# Altium footprint library CONN_jk.PcbLib: 55 footprints (part 1 of 4)
Each footprint in its own frame and in the unit in brackets; x right, y up, seen from the top. Pads: shape width x height; smd on the part's side, far side on the other; paste and mask are expansions set on the pad; w line width, h text height; cw(c..) or ccw(c..) is an arc to the next point about the centre after c.
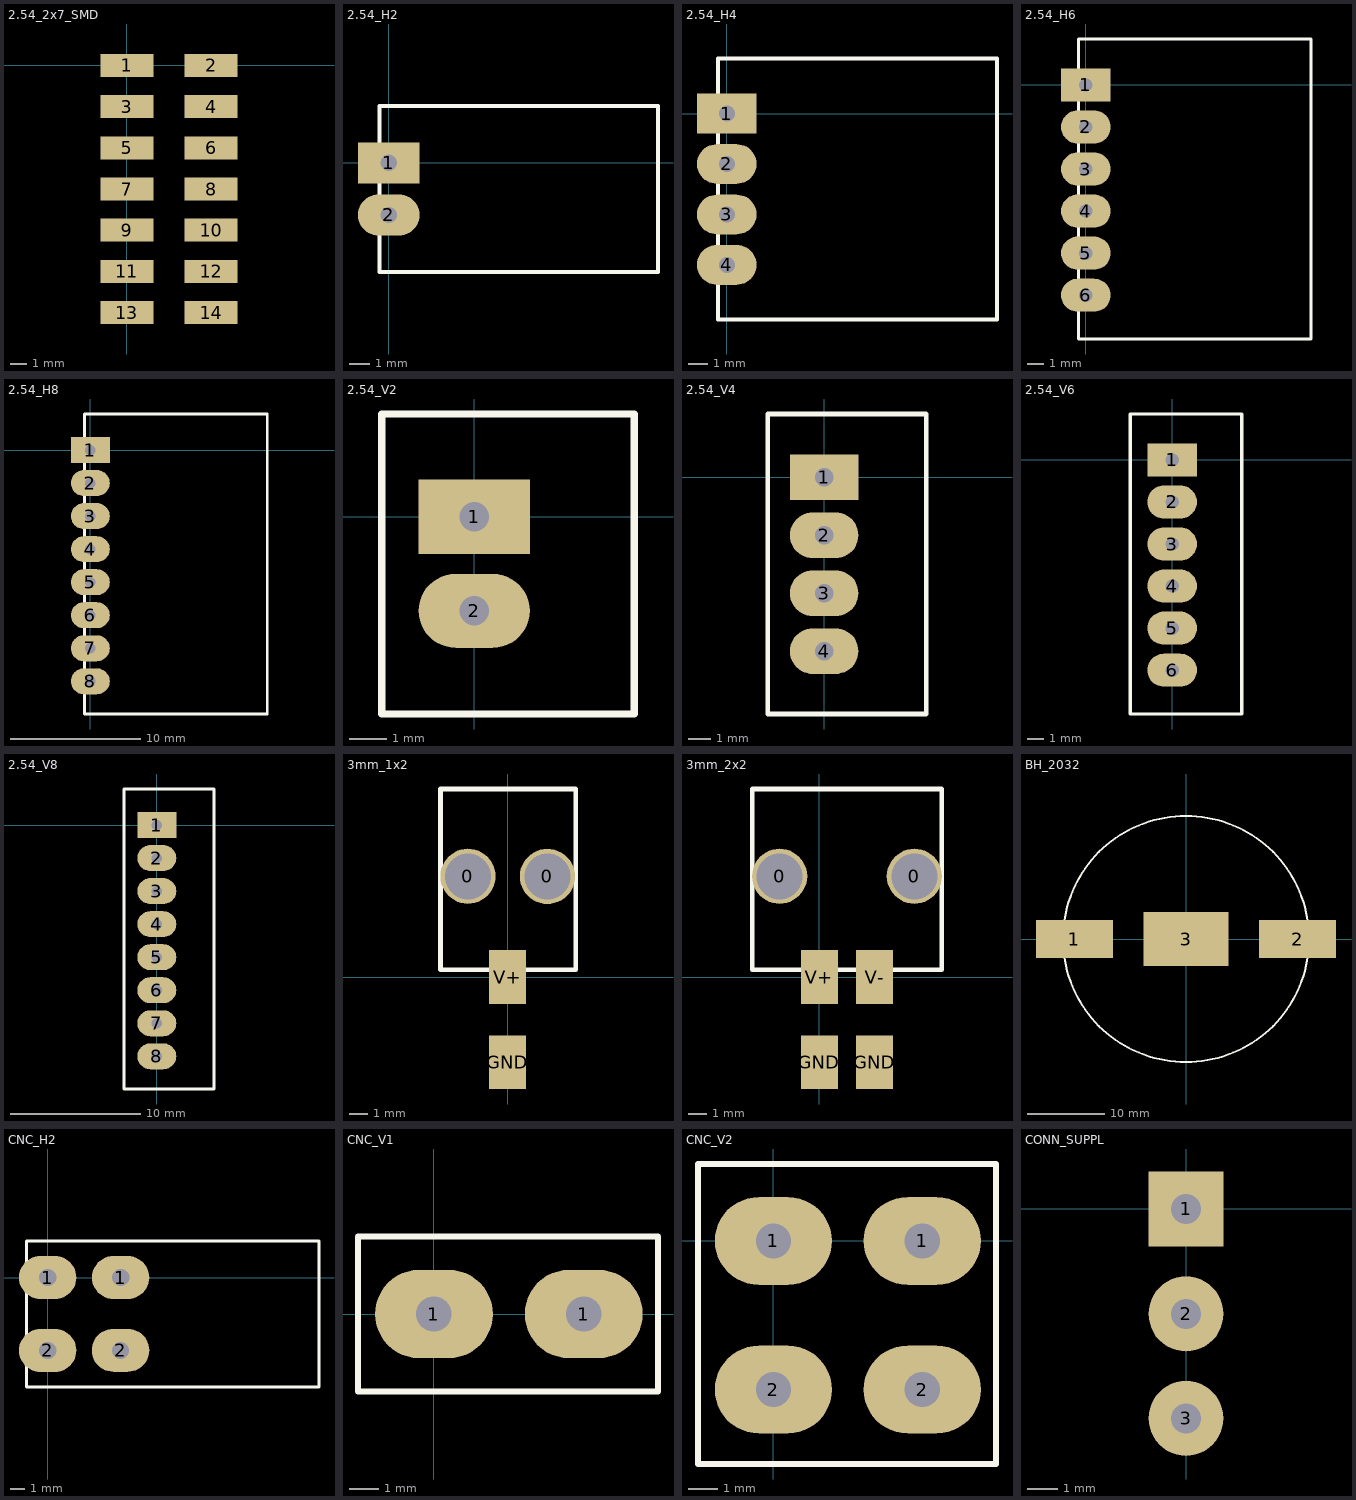
[diagram p0: the footprints below, top view; thin cyan lines are the x and y axes]

## 2.54_2x7_SMD [mm]
pads (14):
  rect 3.2x1.4 smd: 1(0,0) 2(5.1,0) 3(0,-2.5) 4(5.1,-2.5) 5(0,-5) 6(5.1,-5) 7(0,-7.5) 8(5.1,-7.5) 9(0,-10) 10(5.1,-10) 11(0,-12.5) 12(5.1,-12.5) 13(0,-15) 14(5.1,-15)

## 2.54_H2 [mm]
pads (2):
  rect 3x2 hole 0.8: 1(0,0)
  oval 3x2 hole 0.8: 2(0,-2.54)
Top Overlay:
  lines w0.2: -0.45,-5.324 13.122,-5.324 13.122,2.774 -0.45,2.774 -0.45,-5.324

## 2.54_H4 [mm]
pads (4):
  rect 3x2 hole 0.8: 1(0,0)
  oval 3x2 hole 0.8: 2(0,-2.54) 3(0,-5.08) 4(0,-7.62)
Top Overlay:
  lines w0.2: -0.45,-10.372 -0.45,2.774 13.597,2.774 13.597,-10.372 -0.45,-10.372

## 2.54_H6 [mm]
pads (6):
  rect 3x2 hole 0.8: 1(0,0)
  oval 3x2 hole 0.8: 2(0,-2.54) 3(0,-5.08) 4(0,-7.62) 5(0,-10.16) 6(0,-12.7)
Top Overlay:
  lines w0.2: -0.45,-15.346 13.597,-15.346 13.597,2.774 -0.45,2.774 -0.45,-15.346

## 2.54_H8 [mm]
pads (8):
  rect 3x2 hole 0.8: 1(0,0)
  oval 3x2 hole 0.8: 2(0,-2.54) 3(0,-5.08) 4(0,-7.62) 5(0,-10.16) 6(0,-12.7) 7(0,-15.24) 8(0,-17.78)
Top Overlay:
  lines w0.2: -0.45,-20.295 13.597,-20.295 13.597,2.774 -0.45,2.774 -0.45,-20.295

## 2.54_V2 [mm]
pads (2):
  rect 3x2 hole 0.8: 1(0,0)
  oval 3x2 hole 0.8: 2(0,-2.54)
Top Overlay:
  lines w0.2: -2.499,-5.324 4.324,-5.324 4.324,2.774 -2.499,2.774 -2.499,-5.324

## 2.54_V4 [mm]
pads (4):
  rect 3x2 hole 0.8: 1(0,0)
  oval 3x2 hole 0.8: 2(0,-2.54) 3(0,-5.08) 4(0,-7.62)
Top Overlay:
  lines w0.2: -2.474,-10.372 4.474,-10.372 4.474,2.774 -2.474,2.774 -2.474,-10.372

## 2.54_V6 [mm]
pads (6):
  rect 3x2 hole 0.8: 1(0,0)
  oval 3x2 hole 0.8: 2(0,-2.54) 3(0,-5.08) 4(0,-7.62) 5(0,-10.16) 6(0,-12.7)
Top Overlay:
  lines w0.2: -2.524,-15.346 -2.524,2.774 4.199,2.774 4.199,-15.346 -2.524,-15.346

## 2.54_V8 [mm]
pads (8):
  rect 3x2 hole 0.8: 1(0,0)
  oval 3x2 hole 0.8: 2(0,-2.54) 3(0,-5.08) 4(0,-7.62) 5(0,-10.16) 6(0,-12.7) 7(0,-15.24) 8(0,-17.78)
Top Overlay:
  lines w0.2: -2.524,-20.295 -2.524,2.774 4.399,2.774 4.399,-20.295 -2.524,-20.295

## 3mm_1x2 [mm]
pads (4):
  round 3 hole 2.5: 0(-2.16,5.48) 0(2.16,5.474)
  rect 2x2.92 smd: GND(0,-4.62) V+(0,0)
Top Overlay:
  lines w0.254: -3.649,0.4 -3.649,10.222 3.699,10.222 3.699,0.4 -3.649,0.4

## 3mm_2x2 [mm]
pads (6):
  round 3 hole 2.5: 0(-2.16,5.48) 0(5.16,5.48)
  rect 2x2.92 smd: GND(0,-4.62) GND(3,-4.62) V+(0,0) V-(3,0)
Top Overlay:
  lines w0.254: -3.649,0.4 -3.649,10.222 6.648,10.222 6.648,0.4 -3.649,0.4

## BH_2032 [mm]
pads (3):
  rect 10x5 smd: 1(-14.5,0) 2(14.5,0)
  rect 11x7 smd: 3(0,0)
Top Layer:
  text "+" at -12.147,3.074 h5
Top Overlay:
  circle w0.254: c0,0 r16

## CNC_H2 [mm]
pads (4):
  oval 4x3 hole 1.2: 1(0,0) 1(5.08,0) 2(0,-5.08) 2(5.074,-5.074)
Top Overlay:
  lines w0.2: -1.475,-7.62 18.895,-7.62 18.895,2.54 -1.475,2.54 -1.475,-7.62

## CNC_V1 [mm]
pads (2):
  oval 4x3 hole 1.2: 1(0,0) 1(5.08,0)
Top Overlay:
  lines w0.2: -2.574,-2.624 -2.574,2.624 7.598,2.624 7.598,-2.624 -2.574,-2.624

## CNC_V2 [mm]
pads (4):
  oval 4x3 hole 1.2: 1(0,0) 1(5.08,0) 2(0,-5.08) 2(5.08,-5.08)
Top Overlay:
  lines w0.2: -2.574,-7.62 -2.574,2.624 7.598,2.624 7.598,-7.62 -2.574,-7.62

## CONN_SUPPL [mm]
pads (3):
  rect 2.5x2.5 hole 1: 1(0,0)
  round 2.5 hole 1: 2(0,-3.5) 3(0,-6.985)
Bottom Overlay:
  lines w0.2: -4,-8.509 -4,1.5 4,1.5 4,-8.509 ; -3.937,-8.509 3.937,-8.509